# Altium schematic symbol library FlowerLib.SchLib: 2 symbols
Pins are listed as number, name and electrical type; pins without a type are passive.

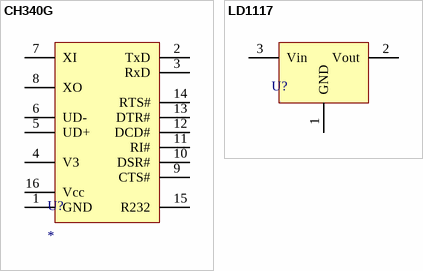
[diagram p0: symbols CH340G to LD1117]

## CH340G
designator U?
pins: 1 GND, 2 TxD, 3 RxD, 4 V3, 5 UD+, 6 UD-, 7 XI, 8 XO, 9 CTS#, 10 DSR#, 11 RI#, 12 DCD#, 13 DTR#, 14 RTS#, 15 R232, 16 Vcc

## LD1117
designator U?  (value not drawn)
LD1117
pins: 1 GND, 2 Vout, 3 Vin